# Altium schematic symbol library Schlib1.SchLib: 10 symbols
Pins are listed as number, name and electrical type; pins without a type are passive.

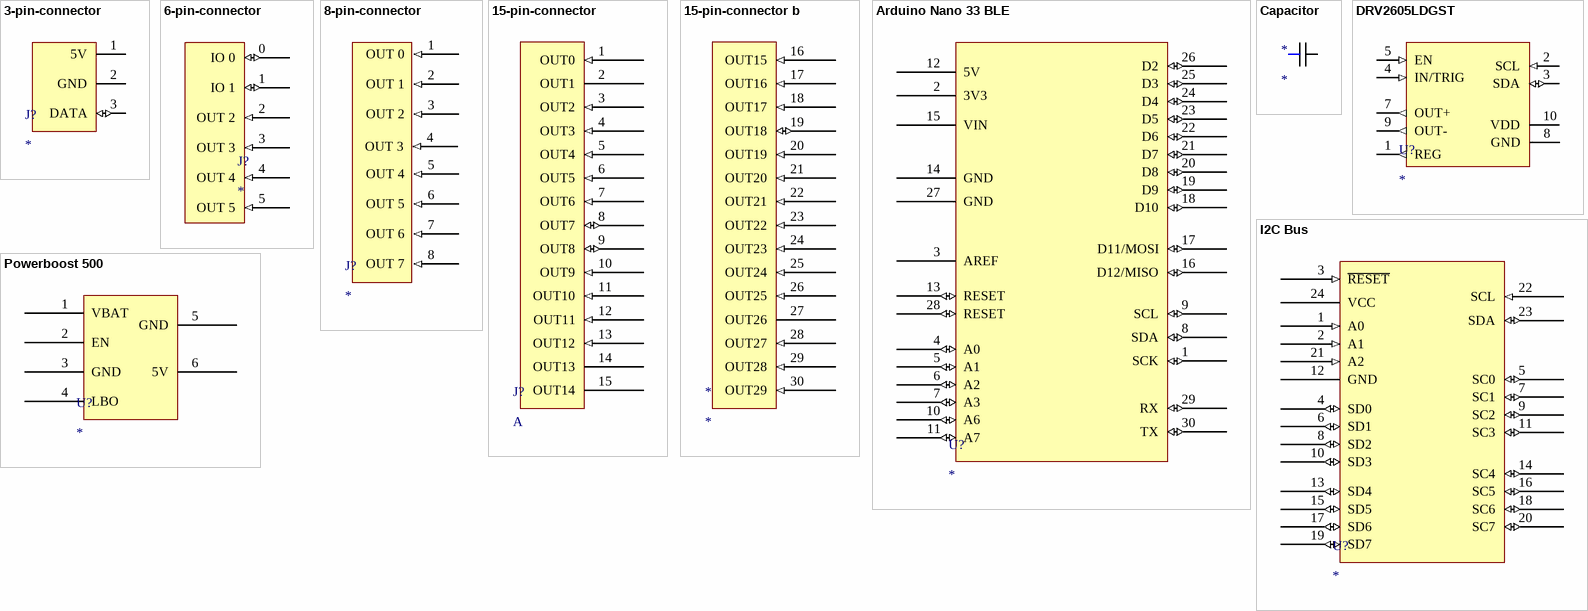
[diagram p0: symbols 3-pin-connector to Powerboost 500]

## 3-pin-connector
designator J?
footprint 3-pin-connector - duplicate (through hole)
pins: 1 5V (power), 2 GND, 3 DATA (io)

## 6-pin-connector
designator J?
footprint 6-PIN-CONNECTOR
pins: 0 IO 0 (io), 1 IO 1 (io), 2 OUT 2 (in), 3 OUT 3 (in), 4 OUT 4 (in), 5 OUT 5 (in)

## 8-pin-connector
designator J?
footprint 8-PIN-CONNECTOR
pins: 1 OUT 0 (in), 2 OUT 1 (in), 3 OUT 2 (in), 4 OUT 3 (in), 5 OUT 4 (in), 6 OUT 5 (in), 7 OUT 6 (in), 8 OUT 7 (in)

## 15-pin-connector
designator J?, comment A
footprint 15-PIN-CONNECTOR  a - duplicate (Arduino Nano 33 BLE a)
pins: 1 OUT0 (in), 2 OUT1, 3 OUT2 (in), 4 OUT3 (in), 5 OUT4 (in), 6 OUT5 (in), 7 OUT6 (in), 8 OUT7 (io), 9 OUT8 (io), 10 OUT9 (in), 11 OUT10 (in), 12 OUT11 (in), 13 OUT12 (in), 14 OUT13, 15 OUT14 (power)

## 15-pin-connector b
designator *
footprint 15-PIN-CONNECTOR b - duplicate (Arduino Nano 33 BLE b)
pins: 16 OUT15 (in), 17 OUT16 (in), 18 OUT17 (in), 19 OUT18 (io), 20 OUT19 (in), 21 OUT20 (in), 22 OUT21 (in), 23 OUT22 (in), 24 OUT23 (in), 25 OUT24 (in), 26 OUT25 (in), 27 OUT26, 28 OUT27 (in), 29 OUT28 (in), 30 OUT29 (in)

## Arduino Nano 33 BLE
designator U?
pins: 1 SCK (io), 2 3V3 (power), 3 AREF, 4 A0 (io), 5 A1 (io), 6 A2 (io), 7 A3 (io), 8 SDA (io), 9 SCL (io), 10 A6 (io), 11 A7 (io), 12 5V (power), 13 RESET (io), 14 GND, 15 VIN (power), 16 D12/MISO (io), 17 D11/MOSI (io), 18 D10 (io), 19 D9 (io), 20 D8 (io), 21 D7 (io), 22 D6 (io), 23 D5 (io), 24 D4 (io), 25 D3 (io), 26 D2 (io), 27 GND, 28 RESET (io), 29 RX (io), 30 TX (io)

## Capacitor
designator *
footprint Capacitor (SMT)
pins: 1, 2

## DRV2605LDGST
designator U?
footprint Driver (DRV2605LDGST)
pins: 1 REG (out), 2 SCL (in), 3 SDA (io), 4 IN/TRIG (in), 5 EN (in), 7 OUT+ (out), 8 GND (power), 9 OUT- (out), 10 VDD (power)

## I2C Bus
designator U?
footprint I2C bus (PI4MSD5V9548A)
pins: 1 A0 (in), 2 A1 (in), 3 ~{RESET} (in), 4 SD0 (io), 5 SC0 (io), 6 SD1 (io), 7 SC1 (io), 8 SD2 (io), 9 SC2 (io), 10 SD3 (io), 11 SC3 (io), 12 GND, 13 SD4 (io), 14 SC4 (io), 15 SD5 (io), 16 SC5 (io), 17 SD6 (io), 18 SC6 (io), 19 SD7 (io), 20 SC7 (io), 21 A2 (in), 22 SCL (in), 23 SDA (io), 24 VCC (power)

## Powerboost 500
designator U?
footprint PowerBoost 500 (Adafruit PowerBoost 500 + Charger)
pins: 1 VBAT (power), 2 EN, 3 GND, 4 LBO, 5 GND, 6 5V (power)